# Altium footprint library 17352658.PcbLib: 1 footprints
Each footprint in its own frame and in the unit in brackets; x right, y up, seen from the top. Pads: shape width x height; smd on the part's side, far side on the other; paste and mask are expansions set on the pad; w line width, h text height; cw(c..) or ccw(c..) is an arc to the next point about the centre after c.
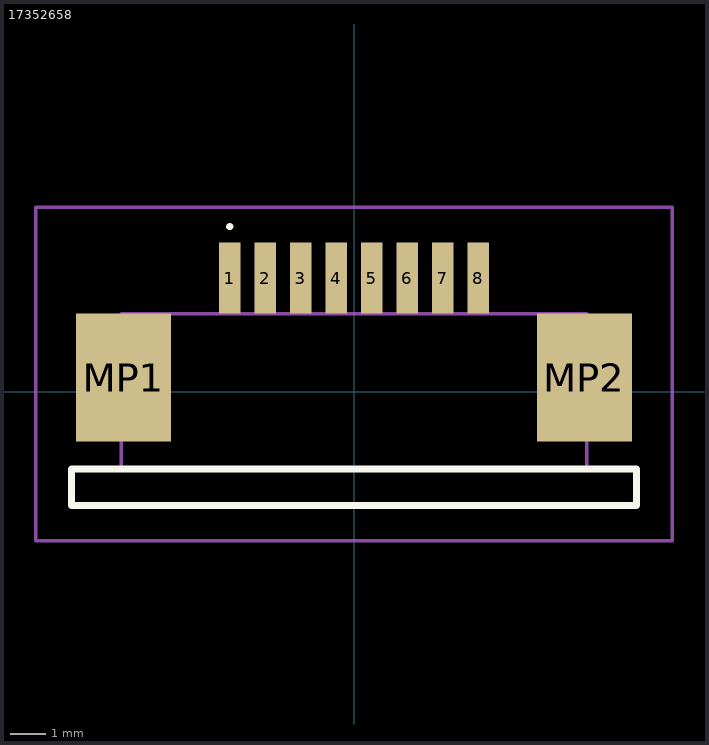
[diagram p0: the footprint, top view; thin cyan lines are the x and y axes]

## 17352658 [mm]
pads (10):
  rect 0.61x2 smd: 1(-3.5,3.2) 2(-2.5,3.2) 3(-1.5,3.2) 4(-0.5,3.2) 5(0.5,3.2) 6(1.5,3.2) 7(2.5,3.2) 8(3.5,3.2)
  rect 2.68x3.6 smd: MP1(-6.49,0.4) MP2(6.49,0.4)
Top Overlay:
  lines w0.1: -3.5,4.6 -3.5,4.6 ; -3.5,4.6 ccw(c-3.5,4.65) -3.5,4.7 ; -3.5,4.6 cw(c-3.5,4.65) -3.5,4.7 ; -3.5,4.7 -3.5,4.7
  lines w0.2: -7.96,-3.2 -7.96,-2.17 -6.56,-2.17 6.56,-2.17 7.96,-2.17 7.96,-3.2 -7.96,-3.2
Mechanical 15:
  lines w0.1: 6.49,-2.17 7.96,-2.17 7.96,-3.2 -7.96,-3.2 -7.96,-2.17 -6.56,-2.17 ; -6.56,-2.17 6.56,-2.17 6.56,2.2 -6.56,2.2 -6.56,-2.17
Mechanical 20:
  lines w0.1: -8.96,-4.2 8.96,-4.2 8.96,5.2 -8.96,5.2 -8.96,-4.2